# Altium schematic symbol library TFM-110-02-SM-D-A-K.SchLib: 1 symbol
Pins are listed as number, name and electrical type; pins without a type are passive.

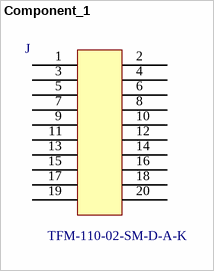
[diagram p0: symbol Component_1]

## Component_1
designator J  value TFM-110-02-SM-D-A-K  (hidden comment: *)
footprint TFM-110-02-SM-D-A-K (Footprint not found)
pins: 1, 2, 3, 4, 5, 6, 7, 8, 9, 10, 11, 12, 13, 14, 15, 16, 17, 18, 19, 20